# Altium footprint library UDFN50P200X300X60-9N.PcbLib: 1 footprints
Each footprint in its own frame and in the unit in brackets; x right, y up, seen from the top. Pads: shape width x height; smd on the part's side, far side on the other; paste and mask are expansions set on the pad; w line width, h text height; cw(c..) or ccw(c..) is an arc to the next point about the centre after c.
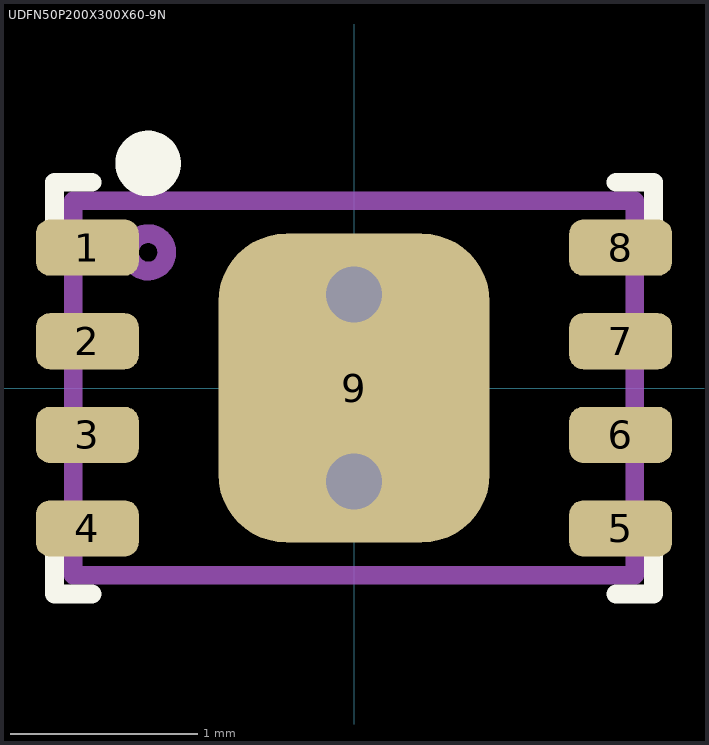
[diagram p0: the footprint, top view; thin cyan lines are the x and y axes]

## UDFN50P200X300X60-9N [mm]
pads (9):
  rrect50% 0.55x0.3 smd mask+0.05: 1(-1.425,0.75) 2(-1.425,0.25) 3(-1.425,-0.25) 4(-1.425,-0.75) 5(1.425,-0.75) 6(1.425,-0.25) 7(1.425,0.25) 8(1.425,0.75)
  rrect50% 1.45x1.65 smd mask+0.05: 9(0,0)
via 0,-0.5 diameter 0.6 hole 0.3
via 0,0.5 diameter 0.6 hole 0.3
Top Overlay:
  circle w0.25: c-1.1,1.2 r0.05
  lines w0.1: -1.6,-0.9 -1.6,-1.1 -1.4,-1.1 ; -1.6,0.9 -1.6,1.1 -1.4,1.1 ; 1.4,-1.1 1.6,-1.1 1.6,-0.9 ; 1.4,1.1 1.6,1.1 1.6,0.9
Top Assembly:
  circle w0.1: c-1.1,0.725 r0.1
  lines w0.1: -1.5,-1 1.5,-1 1.5,1 -1.5,1 -1.5,-1
Top Courtyard:
  lines w0.1: -0.25,0 0.25,0 ; 0,-0.25 0,0.25 ; -1.5,-1 -1.5,1 1.5,1 1.5,-1 -1.5,-1
3D body "ATECC508A-MAHCZ-S--3DModel-STEP-56544.STEP": height 0.58, standoff -0.02, extent -1.5,-1 1.5,1